# EAGLE library part ADAFRUIT_DS3231 (library It-s Time, Do)
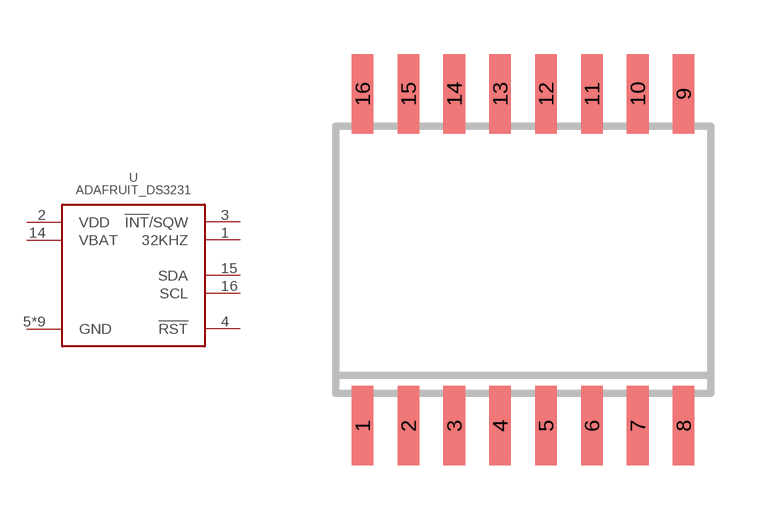
[diagram p1: symbol with the pads of ADAFRUIT_SO16W; footprint ADAFRUIT_SO16W]

Designator prefix U

## ADAFRUIT_DS3231/SO  [ADAFRUIT_SO16W]
1  32KHZ  out
2  VDD  pwr
3  !INT!/SQW  out
4  !RST!  pas
5  GND  pwr
6  GND  pwr
7  GND  pwr
8  GND  pwr
9  GND  pwr
10  GND  pwr
11  GND  pwr
12  GND  pwr
13  GND  pwr
14  VBAT  pwr
15  SDA
16  SCL

## Footprint ADAFRUIT_SO16W (pad centres in mm)
SMALL OUTLINE INTEGRATED CIRCUIT wide body 7.5 mm/JEDEC MS-013AA
smd 0.6 x 2.2: 1 -4.445,-4.6; 2 -3.175,-4.6; 3 -1.905,-4.6; 4 -0.635,-4.6; 5 0.635,-4.6; 6 1.905,-4.6; 7 3.175,-4.6; 8 4.445,-4.6; 9 4.445,4.6; 10 3.175,4.6; 11 1.905,4.6; 12 0.635,4.6; 13 -0.635,4.6; 14 -1.905,4.6; 15 -3.175,4.6; 16 -4.445,4.6